# EAGLE library part SKY13418-485LF (library SKY13418-485LF)
RF Switch ICs 100-3000MHz SP8T IL .45dB Iso >31dB Source: Datasheet <https://www.skyworksinc.com/-/media/SkyWorks/Documents/Products/701-800/SKY13418_485LF_201712F.pdf>
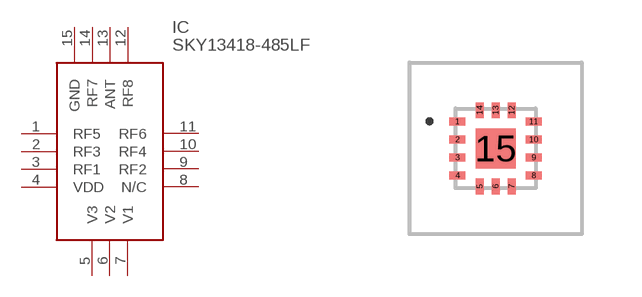
[diagram p0: symbol with the pads of SKY13418485LF; footprint SKY13418485LF]

Designator prefix IC

## SKY13418-485LF (Description: RF Switch ICs 100-3000MHz SP8T IL .45dB Iso >31dB; Height: 0.6mm; Manufacturer_Name: Skyworks; Manufacturer_Part_Number: SKY13418-485LF; Mouser_Part_Number: 873-SKY13418-485LF; Mouser_Price-Stock: https://www.mouser.co.uk/ProductDetail/Skyworks-Solutions-Inc/SKY13418-485LF?qs=aD6bdfC8ElNmIkWKGXNfog%3D%3D)  [SKY13418485LF]
1  RF5
2  RF3
3  RF1
4  VDD
5  V3
6  V2
7  V1
8  N/C  nc
9  RF2
10  RF4
11  RF6
12  RF8
13  ANT
14  RF7
15  GND

## Footprint SKY13418485LF (pad centres in mm)
QFN (14-pin, 2.0 x 2.0 mm)
smd 0.395 x 0.2: 1 -0.953,0.675; 2 -0.953,0.225; 3 -0.953,-0.225; 4 -0.953,-0.675; 8 0.953,-0.675; 9 0.953,-0.225; 10 0.953,0.225; 11 0.953,0.675
smd 0.2 x 0.395: 5 -0.4,-0.953; 6 0,-0.953; 7 0.4,-0.953; 12 0.4,0.953; 13 0,0.953; 14 -0.4,0.953
smd 1 x 1: 15 0,0